# Altium integrated library Big_Library_Cap_MLCC_SMD.IntLib: 5 symbols
Pins are listed as number, name and electrical type; pins without a type are passive.

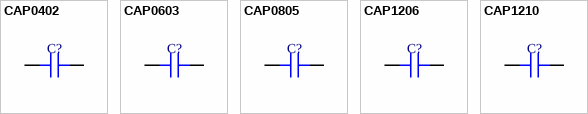
[diagram p0: symbols CAP0402 to CAP1210]

## CAP0402
designator C?
0402 SMD CAP; Voltage: *; Temp Coefficient: *; Tolerance: *; Part Code: *; ComponentLink2Description: Link; ComponentLink2URL: *; Package: 0402
footprint CAP 0402_1005 (Chip Capacitor, 2-Leads, Body 1.02x0.51mm, IPC Medium Density)
pins: 1, 2

## CAP0603
designator C?
0603 SMD CAP; Voltage: *; Temp Coefficient: *; Tolerance: *; ComponentLink1Description: Link; ComponentLink1URL: *; Part Code: *; Package: 0603
footprint CAP 0603_1608 (Chip Capacitor, 2-Leads, Body 1.60x0.80mm, IPC Medium Density)
pins: 1, 2

## CAP0805
designator C?
0805 SMD CAP; Voltage: *; Temp Coefficient: *; Tolerance: *; ComponentLink1Description: Link; ComponentLink1URL: *; Part Code: *; Package: 0805
footprint CAP 0805_2012 (Chip Capacitor, 2-Leads, Body 2.00x1.20mm, IPC Medium Density)
pins: 1, 2

## CAP1206
designator C?
1206 SMD CAP; Voltage: *; Temp Coefficient: *; Tolerance: *; ComponentLink1Description: Link; ComponentLink1URL: *; Part Code: *; Package: 1206
footprint CAP 1206_3216 (Chip Capacitor, 2-Leads, Body 3.25x1.60mm, IPC Medium Density)
footprint CAP 1206_3216 - 0.8MM (Chip Capacitor, 2-Leads, Body 3.25x1.60mm, IPC Medium Density)
footprint CAP 1206_3216 - 1.0MM (Chip Capacitor, 2-Leads, Body 3.25x1.60mm, IPC Medium Density)
footprint CAP 1206_3216 - 1.8MM (Chip Capacitor, 2-Leads, Body 3.25x1.60mm, IPC Medium Density)
pins: 1, 2

## CAP1210
designator C?
1210 SMD CAP; Voltage: *; Temp Coefficient: *; Tolerance: *; ComponentLink1Description: Link; ComponentLink1URL: *; Part Code: *; Package: 1210
footprint CAP 1210_3225 - 2.0MM (Chip Capacitor, 2-Leads, Body 3.20x2.50mm, IPC Medium Density)
footprint CAP 1210_3225 - 1MM (Chip Capacitor, 2-Leads, Body 3.20x2.50mm, IPC Medium Density)
footprint CAP 1210_3225 - 1.2MM (Chip Capacitor, 2-Leads, Body 3.20x2.50mm, IPC Medium Density)
footprint CAP 1210_3225 - 1.4MM (Chip Capacitor, 2-Leads, Body 3.20x2.50mm, IPC Medium Density)
footprint CAP 1210_3225 - 1.6MM (Chip Capacitor, 2-Leads, Body 3.20x2.50mm, IPC Medium Density)
footprint CAP 1210_3225 - 1.8MM (Chip Capacitor, 2-Leads, Body 3.20x2.50mm, IPC Medium Density)
footprint CAP 1210_3225 - 2.0MM (Chip Capacitor, 2-Leads, Body 3.20x2.50mm, IPC Medium Density)
footprint CAP 1210_3225 - 2.2MM (Chip Capacitor, 2-Leads, Body 3.20x2.50mm, IPC Medium Density)
footprint CAP 1210_3225 - 2.5MM (Chip Capacitor, 2-Leads, Body 3.20x2.50mm, IPC Medium Density)
footprint CAP 1210_3225 - 2.8MM (Chip Capacitor, 2-Leads, Body 3.20x2.50mm, IPC Medium Density)
pins: 1, 2